# Altium schematic symbol library CNCPowerSupply.SchLib: 15 symbols
Pins are listed as number, name and electrical type; pins without a type are passive.

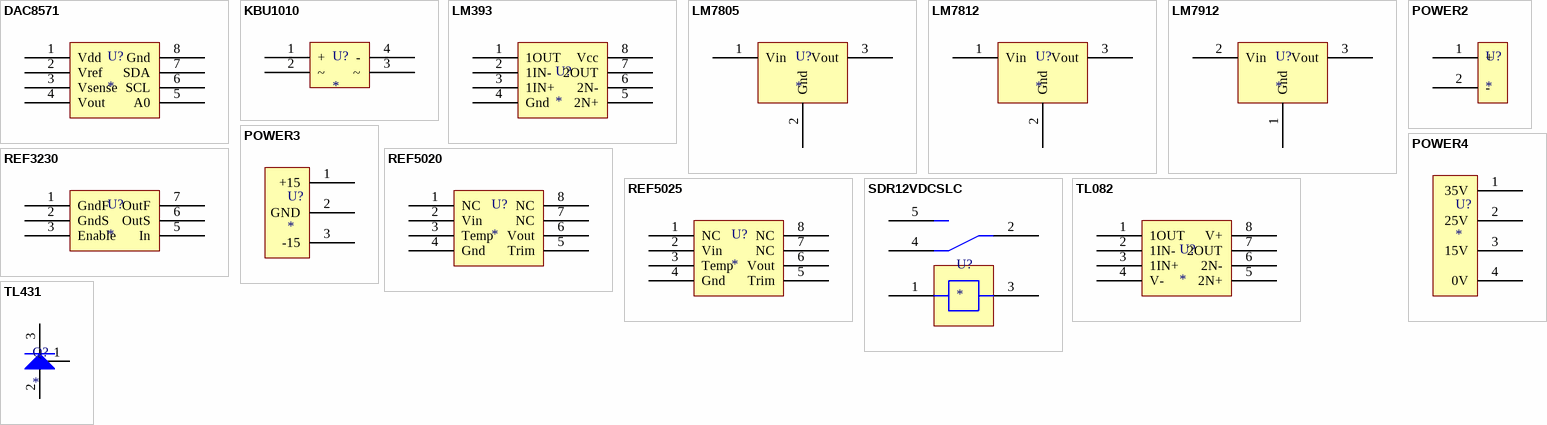
[diagram p0: symbols DAC8571 to TL431]

## DAC8571
designator U?
DAC8571
pins: 1 Vdd, 2 Vref, 3 Vsense, 4 Vout, 5 A0, 6 SCL, 7 SDA, 8 Gnd

## KBU1010
designator U?
KBU1010
pins: 1 +, 2 ~, 3 ~, 4 -

## LM393
designator U?
LM393
pins: 1 1OUT, 2 1IN-, 3 1IN+, 4 Gnd, 5 2N+, 6 2N-, 7 2OUT, 8 Vcc

## LM7805
designator U?
LM7805
pins: 1 Vin, 2 Gnd, 3 Vout

## LM7812
designator U?
LM7812
pins: 1 Vin, 2 Gnd, 3 Vout

## LM7912
designator U?
LM7912
pins: 1 Gnd, 2 Vin, 3 Vout

## POWER2
designator U?
POWER2
pins: 1 +, 2 -

## POWER3
designator U?
Power Connector 3
pins: 1 +15, 2 GND, 3 -15

## POWER4
designator U?
Power Connector 3
pins: 1 35V, 2 25V, 3 15V, 4 0V

## REF3230
designator U?
REF3230
pins: 1 GndF, 2 GndS, 3 Enable, 5 In, 6 OutS, 7 OutF

## REF5020
designator U?
REF5020
pins: 1 NC, 2 Vin, 3 Temp, 4 Gnd, 5 Trim, 6 Vout, 7 NC, 8 NC

## REF5025
designator U?
REF5025
pins: 1 NC, 2 Vin, 3 Temp, 4 Gnd, 5 Trim, 6 Vout, 7 NC, 8 NC

## SDR12VDCSLC
designator U?
SDR12VDCSLC
pins: 1 V+, 2 C, 3 V-, 4 I, 5 O

## TL082
designator U?
TL082
pins: 1 1OUT, 2 1IN-, 3 1IN+, 4 V-, 5 2N+, 6 2N-, 7 2OUT, 8 V+

## TL431
designator Q?
TL431
pins: 1 REF, 2 A, 3 K